# EAGLE library part IL300 (library Pauls_parts)
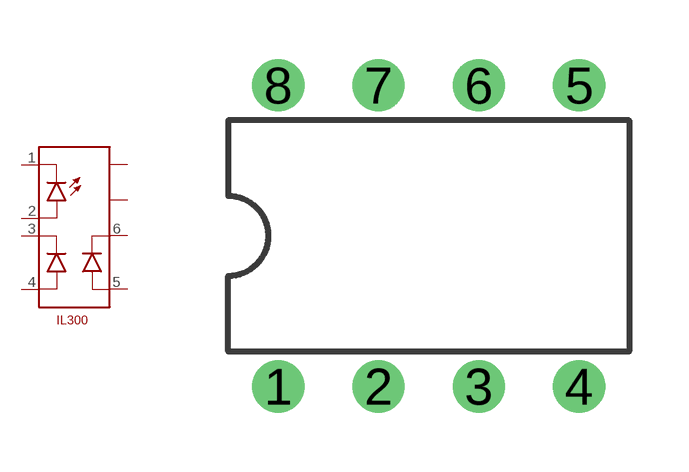
[diagram p2: symbol with the pads of PDIP8; footprint PDIP8]

Designator prefix -

## IL300  [PDIP8]
1  C_LED  pas
2  A_LED  pas
3  C_FB  pas
4  A_FB  pas
5  A_OUT  pas
6  C_OUT  pas
7  PIN7  nc
8  PIN8  nc

## Footprint PDIP8 (pad centres in mm)
drill 0.813 pad 1.27 round: 1 -3.81,-3.81; 2 -1.27,-3.81; 3 1.27,-3.81; 4 3.81,-3.81; 5 3.81,3.81; 6 1.27,3.81; 7 -1.27,3.81; 8 -3.81,3.81